# Altium footprint library STM32单片机及常用原件.PcbLib: 227 footprints (part 3 of 15)
Each footprint in its own frame and in the unit in brackets; x right, y up, seen from the top. Pads: shape width x height; smd on the part's side, far side on the other; paste and mask are expansions set on the pad; w line width, h text height; cw(c..) or ccw(c..) is an arc to the next point about the centre after c.
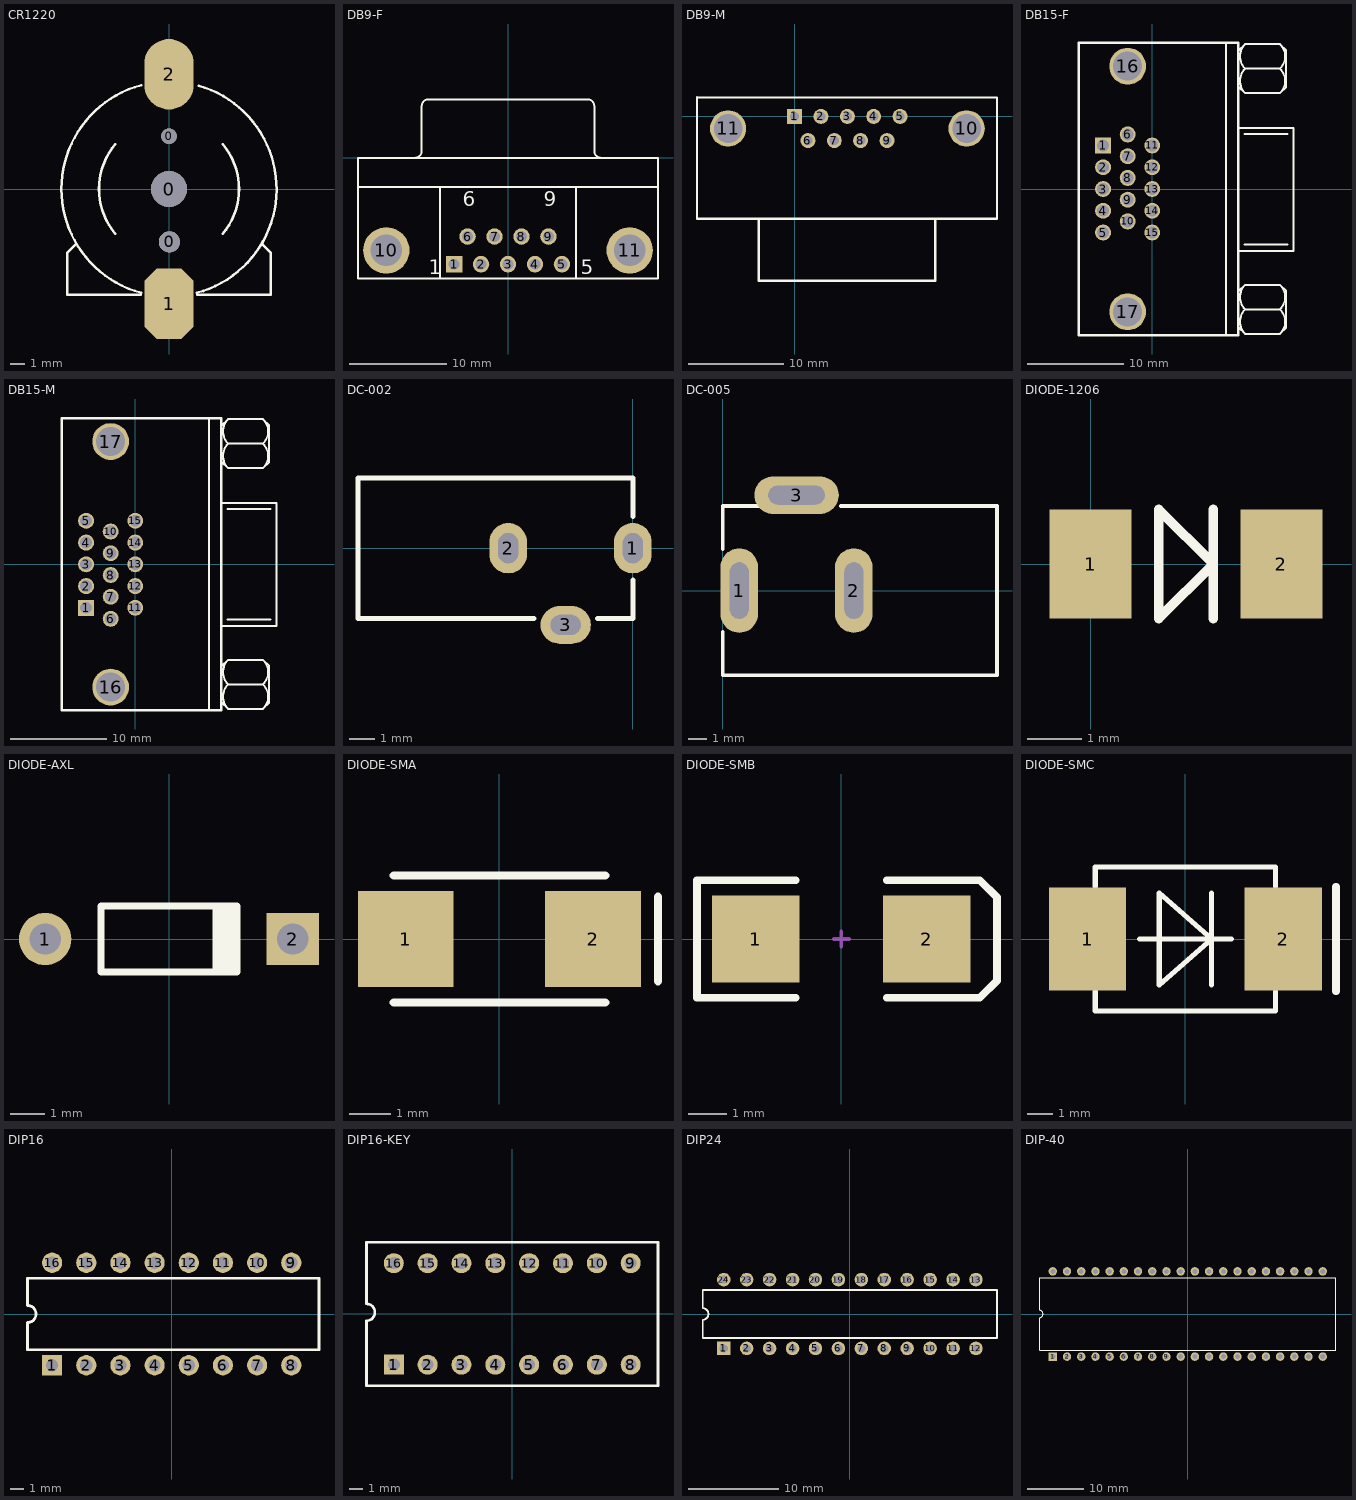
[diagram p2: the footprints below, top view; thin cyan lines are the x and y axes]

## CR1220 [mm] "钮扣电池"
height 3
pads (5):
  round 2.54 hole 2.54: 0(0,0)
  round 1.1 hole 1.1: 0(0,3.75)
  round 1.5 hole 1.5: 0(0.025,-3.75)
  oct 3.5x5 smd: 1(0,-8.128)
  oval 3.5x5 smd: 2(0,8.128)
Top Overlay:
  lines w0.178: -6.6,-3.9 -7.2,-4.5 -7.2,-7.5 -2,-7.5 ; -3.815,-3.169 cw(c0,0) -3.812,3.172 ; -1.963,-7.363 cw(c0,0) -7.62,0 cw(c0,0) -1.963,7.363 ; 1.963,-7.363 ccw(c0,0) 2.093,7.327 ; 2,-7.5 7.2,-7.5 7.2,-4.5 6.625,-3.925 ; 3.81,-3.175 ccw(c0,0) 3.812,3.172

## DB9-F [mm] "DB9母座"
height 12.75
pads (11):
  rect 1.69x1.69 hole 1.09: 1(-5.54,-10.92)
  round 1.69 hole 1.09: 2(-2.77,-10.92) 3(0,-10.92) 4(2.77,-10.92) 5(5.54,-10.92) 6(-4.155,-8.08) 7(-1.385,-8.08) 8(1.385,-8.08) 9(4.155,-8.08)
  round 4.76 hole 3.26: 10(-12.495,-9.5) 11(12.495,-9.5)
Top Overlay:
  lines w0.2: -15.4,-3 15.4,-3 ; -9.56,0.005 ccw(c-9.56,0.7) -8.865,0.7 -8.865,5.3 ; -8.86,5.305 cw(c-8.165,5.305) -8.165,6 8.165,6 cw(c8.165,5.305) 8.86,5.305 ; -7,-12.4 -7,-3 ; 7,-12.4 7,-3 ; 8.865,5.3 8.865,0.7 ccw(c9.56,0.7) 9.56,0.005 ; -15.4,-12.4 -15.4,0 15.4,0 15.4,-12.4 -15.4,-12.4
  text "1" at -8.128,-11.938 h1.5
  text "5" at 7.493,-11.938 h1.5
  text "9" at 3.655,-4.975 h1.5
  text "6" at -4.655,-4.975 h1.5

## DB9-M [mil] "DB9公座"
height 393.7
pads (11):
  rect 62x62 hole 38: 1(0,0)
  round 62 hole 38: 2(109,0) 3(218,0) 4(327,0) 5(436,0) 6(55,-100) 7(164,-100) 8(273,-100) 9(382,-100)
  round 150 hole 118.11: 10(711,-50) 11(-275,-50)
Top Overlay:
  lines w8: -403.54,78.74 836.61,78.74 836.61,-423.23
  lines w10: -403.54,78.74 -403.54,-423.23 836.61,-423.23 ; -147.64,-425 -147.64,-679.13 580.71,-679.13 580.71,-425
3D body: height 393.7, standoff 0, extent -405,-425 835,75
3D body: height 314.96, standoff 0, extent -145,-680 580,-425

## DB15-F [mil] "VGAĸ"
height 393.7
pads (17):
  rect 65x65 hole 48: 1(-200,177.16)
  round 65 hole 48: 2(-200,88.58) 3(-200,0) 4(-200,-88.58) 5(-200,-177.16) 6(-100,222.17) 7(-100,133.58) 8(-100,45) 9(-100,-43.58) 10(-100,-132.16) 11(0,177.16) 12(0,88.58) 13(0,0) 14(0,-88.58) 15(0,-177.16)
  round 150 hole 118.11: 16(-100,500) 17(-100,-500)
Top Overlay:
  lines w8: 300,-595 300,596.25 ; 350,-251.67 575,-251.67 575,248.33 350,248.33 ; 353.33,-565 378.33,-590 520,-590 545,-565 545,-415 520,-390 378.33,-390 353.33,-415 ; 353.33,415 378.33,390 520,390 545,415 545,565 520,590 378.33,590 353.33,565 ; 375,-226.67 550,-226.67 ; 375,223.33 550,223.33 ; 378.25,-590.09 cw(c428.33,-540) 378.25,-489.91 ; 378.25,-490.09 cw(c428.33,-440) 378.25,-389.91 ; 378.25,389.91 cw(c428.33,440) 378.25,490.09 ; 378.25,489.91 cw(c428.33,540) 378.25,590.09 ; 378.33,-490 520,-490 ; 378.33,490 520,490 ; 520.09,-590.09 ccw(c470,-540) 520.09,-489.91 ; 520.09,-490.09 ccw(c470,-440) 520.09,-389.91 ; 520.09,389.91 ccw(c470,440) 520.09,490.09 ; 520.09,489.91 ccw(c470,540) 520.09,590.09
  lines w10: -300,-595 350,-595 350,595 -300,595 -300,-595

## DB15-M [mil] "VGA公"
height 393.7
pads (17):
  rect 65x65 hole 48: 1(-200,-177.16)
  round 65 hole 48: 2(-200,-88.58) 3(-200,0) 4(-200,88.58) 5(-200,177.16) 6(-100,-222) 7(-100,-132.16) 8(-100,-43.58) 9(-100,45) 10(-100,133.58) 11(0,-177.16) 12(0,-88.58) 13(0,0) 14(0,88.58) 15(0,177.16)
  round 150 hole 118.11: 16(-100,-500) 17(-100,500)
Top Overlay:
  lines w8: 300,-596.25 300,595 ; 350,-250.42 575,-250.42 575,249.58 350,249.58 ; 353.33,-563.75 378.33,-588.75 520,-588.75 545,-563.75 545,-413.75 520,-388.75 378.33,-388.75 353.33,-413.75 ; 353.33,416.25 378.33,391.25 520,391.25 545,416.25 545,566.25 520,591.25 378.33,591.25 353.33,566.25 ; 375,-225.42 550,-225.42 ; 375,224.58 550,224.58 ; 378.25,-588.84 cw(c428.33,-538.75) 378.25,-488.66 ; 378.25,-488.84 cw(c428.33,-438.75) 378.25,-388.66 ; 378.25,391.16 cw(c428.33,441.25) 378.25,491.34 ; 378.25,491.16 cw(c428.33,541.25) 378.25,591.34 ; 378.33,-488.75 520,-488.75 ; 378.33,491.25 520,491.25 ; 520.09,-588.84 ccw(c470,-538.75) 520.09,-488.66 ; 520.09,-488.84 ccw(c470,-438.75) 520.09,-388.66 ; 520.09,391.16 ccw(c470,441.25) 520.09,491.34 ; 520.09,491.16 ccw(c470,541.25) 520.09,591.34
  lines w10: -300,-595 350,-595 350,595 -300,595 -300,-595

## DC-002 [mm] "DC母座3.5mm"
height 7.2
pads (3):
  oval 1.5x2 hole 0.8 slot 1.2 at 90 deg: 1(0,0) 2(-4.953,0)
  oval 2x1.5 hole 0.8 slot 1.2 at 0 deg: 3(-2.667,-3.048)
Top Overlay:
  lines w0.2: -3.937,-2.794 -10.922,-2.794 -10.922,2.794 0,2.794 0,1.27 ; -1.397,-2.794 0,-2.794 0,-1.27
3D body: height 7.2, standoff 0, extent -10.922,-2.794 0,2.794

## DC-005 [mm] "DC母座5.5mm"
height 12.75
pads (3):
  oval 2x4.5 hole 1 slot 3 at 90 deg: 1(0.889,0) 2(6.985,0)
  oval 4.5x2 hole 1 slot 3 at 0 deg: 3(3.937,5.08)
Top Overlay:
  lines w0.2: 0.005,-2.2 0.005,-4.5 14.605,-4.5 14.605,4.5 6.305,4.5 ; 0.005,2.2 0.005,4.5 1.905,4.5
3D body: height 11, standoff 0, extent 0,-4.445 14.605,4.445

## DIODE-1206 [mm] "玻璃封装二极管"
height 3
pads (2):
  rect 1.5x2 smd: 1(0,0) 2(3.5,0)
Top Overlay:
  lines w0.178: 2.25,-1 2.25,1 ; 1.25,-1 1.25,1 2.25,0 1.25,-1

## DIODE-AXL [mm] "直插二极管"
height 1.9
pads (2):
  round 1.5 hole 0.9: 1(-3.55,0)
  rect 1.5x1.5 hole 0.9: 2(3.55,0)
Top Overlay:
  rectangle: 1.25,-0.95 2.05,0.95
  lines w0.2: 1.95,-0.95 -1.95,-0.95 -1.95,0.95 1.95,0.95

## DIODE-SMA [mm] "贴片二极管"
height 2.54
pads (2):
  rect 2.3x2.3 smd: 1(-2.25,0) 2(2.25,0)
Top Overlay:
  lines w0.2: -2.54,-1.524 2.54,-1.524 ; -2.54,1.524 2.54,1.524 ; 3.81,-1.016 3.81,1.016
3D body: height 3, standoff 0, extent -2.921,-1.397 2.921,1.397

## DIODE-SMB [mm] "DO-214-AA/SMB; 2 C-Bend Leads; Body 5.3 x 3.6 mm, inc. leads (LxW)"
height 2.54
pads (2):
  rect 2.3x2.3 smd: 1(-2.25,0) 2(2.25,0)
Top Overlay:
  lines w0.2: -1.2,-1.55 -3.8,-1.55 -3.8,1.55 -1.2,1.55 ; 1.2,-1.55 3.65,-1.55 4.1,-1.1 4.1,1.1 3.65,1.55 1.2,1.55
Mechanical 1:
  lines w0.1: -0.2,0 0.2,0 ; 0,-0.2 0,0.2

## DIODE-SMC [mm] "贴片二极管"
height 1.5
pads (2):
  rect 3x4 smd: 1(-3.8,0) 2(3.8,0)
Top Overlay:
  lines w0.2: -3.5,-2.032 -3.5,-2.794 3.5,-2.794 3.5,-2.032 ; -3.5,2.032 -3.5,2.794 3.5,2.794 3.5,2.032 ; -1.778,0 1.778,0 ; 1.016,-1.778 1.016,1.778 ; -1.016,-1.778 1.016,0 -1.016,1.778 -1.016,-1.778
  lines w0.3: 5.842,-2.032 5.842,2.032
3D body: height 1.05, standoff 1, extent 2.921,-2.794 3.429,2.794
3D body: height 1, standoff 0, extent -3.429,-2.794 3.556,2.794
3D body: height 0.8, standoff 0, extent 3.556,-1.905 3.937,1.905
3D body: height 0.8, standoff 0, extent -3.81,-1.905 -3.429,1.905

## DIP16 [mm]
height 5.8
pads (16):
  rect 1.5x1.5 hole 0.9: 1(-8.89,-3.81)
  round 1.5 hole 0.9: 2(-6.35,-3.81) 3(-3.81,-3.81) 4(-1.27,-3.81) 5(1.27,-3.81) 6(3.81,-3.81) 7(6.35,-3.81) 8(8.89,-3.81) 9(8.89,3.81) 10(6.35,3.81) 11(3.81,3.81) 12(1.27,3.81) 13(-1.27,3.81) 14(-3.81,3.81) 15(-6.35,3.81) 16(-8.89,3.81)
Top Overlay:
  lines w0.2: -10.716,-2.65 10.95,-2.65 10.95,2.65 -10.716,2.65 -10.716,0.635 cw(c-10.716,0) -10.716,-0.635 -10.716,-2.65

## DIP16-KEY [mm] "DIP拨码开关"
height 2.65
pads (16):
  rect 1.5x1.5 hole 0.9: 1(-8.89,-3.81)
  round 1.5 hole 0.9: 2(-6.35,-3.81) 3(-3.81,-3.81) 4(-1.27,-3.81) 5(1.27,-3.81) 6(3.81,-3.81) 7(6.35,-3.81) 8(8.89,-3.81) 9(8.89,3.81) 10(6.35,3.81) 11(3.81,3.81) 12(1.27,3.81) 13(-1.27,3.81) 14(-3.81,3.81) 15(-6.35,3.81) 16(-8.89,3.81)
Top Overlay:
  lines w0.2: -10.94,0.76 cw(c-10.94,0.125) -10.94,-0.51 -10.94,-5.4 10.94,-5.4 10.94,5.39 -10.94,5.39 -10.94,0.79

## DIP24 [mm] "DIP; 24,74ls154"
height 5.08
pads (24):
  rect 1.5x1.5 hole 0.9: 1(-13.97,-3.81)
  round 1.5 hole 0.9: 2(-11.43,-3.81) 3(-8.89,-3.81) 4(-6.35,-3.81) 5(-3.81,-3.81) 6(-1.27,-3.81) 7(1.27,-3.81) 8(3.81,-3.81) 9(6.35,-3.81) 10(8.89,-3.81) 11(11.43,-3.81) 12(13.97,-3.81) 13(13.97,3.81) 14(11.43,3.81) 15(8.89,3.81) 16(6.35,3.81) 17(3.81,3.81) 18(1.27,3.81) 19(-1.27,3.81) 20(-3.81,3.81) 21(-6.35,3.81) 22(-8.89,3.81) 23(-11.43,3.81) 24(-13.97,3.81)
Top Overlay:
  lines w0.2: -16.3,-2.65 -16.3,-0.635 ccw(c-16.3,0) -16.3,0.635 -16.3,2.65 16.3,2.65 16.3,-2.65 -16.3,-2.65

## DIP-40 [mm] "51单片机"
height 4.7
pads (40):
  rect 1.5x1.5 hole 0.9: 1(-24.13,-7.62)
  round 1.5 hole 0.9: 2(-21.59,-7.62) 3(-19.05,-7.62) 4(-16.51,-7.62) 5(-13.97,-7.62) 6(-11.43,-7.62) 7(-8.89,-7.62) 8(-6.35,-7.62) 9(-3.81,-7.62) 10(-1.27,-7.62) 11(1.27,-7.62) 12(3.81,-7.62) 13(6.35,-7.62) 14(8.89,-7.62) 15(11.43,-7.62) 16(13.97,-7.62) 17(16.51,-7.62) 18(19.05,-7.62) 19(21.59,-7.62) 20(24.13,-7.62) 21(24.13,7.62) 22(21.59,7.62) 23(19.05,7.62) 24(16.51,7.62) 25(13.97,7.62) 26(11.43,7.62) 27(8.89,7.62) 28(6.35,7.62) 29(3.81,7.62) 30(1.27,7.62) 31(-1.27,7.62) 32(-3.81,7.62) 33(-6.35,7.62) 34(-8.89,7.62) 35(-11.43,7.62) 36(-13.97,7.62) 37(-16.51,7.62) 38(-19.05,7.62) 39(-21.59,7.62) 40(-24.13,7.62)
Top Overlay:
  lines w0.2: -26.5,-6.45 26.5,-6.45 26.5,6.45 -26.5,6.45 -26.5,0.635 cw(c-26.5,0) -26.5,-0.635 -26.5,-6.45